# EAGLE library part 902-131A1011D10100 (library 902-131A1011D10100)
USB 2.0 1 4 Female Type-A Plugin USB Connectors ROHS Source: Datasheet <https://datasheet.lcsc.com/lcsc/2102261732_Jing-Extension-of-the-Electronic-Co--902-131A1011D10100_C2345.pdf>
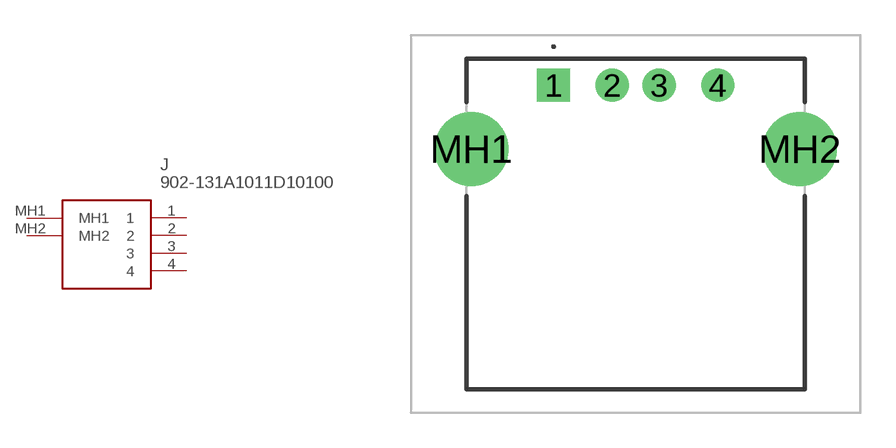
[diagram p0: symbol with the pads of 902131A1011D10100; footprint 902131A1011D10100]

Designator prefix J

## 902-131A1011D10100 (Description: USB 2.0 1 4 Female Type-A Plugin USB Connectors ROHS; Height: 7.15mm; Manufacturer_Name: Jing Extension of the Electronic Co.; Manufacturer_Part_Number: 902-131A1011D10100)  [902131A1011D10100]
1  1
2  2
3  3
4  4
MH1  MH1
MH2  MH2

## Footprint 902131A1011D10100 (pad centres in mm)
902-131A1011D10100-2
drill 0.9 pad 1.4 square: 1 0,0
drill 0.9 pad 1.4: 2 2.5,0; 3 4.5,0; 4 7,0
drill 2.1 pad 3.15: MH1 -3.5,-2.71; MH2 10.5,-2.71